# Altium footprint library Vishay Sprague Footprints.PcbLib: 143 footprints (part 6 of 9)
Each footprint in its own frame and in the unit in brackets; x right, y up, seen from the top. Pads: shape width x height; smd on the part's side, far side on the other; paste and mask are expansions set on the pad; w line width, h text height; cw(c..) or ccw(c..) is an arc to the next point about the centre after c.
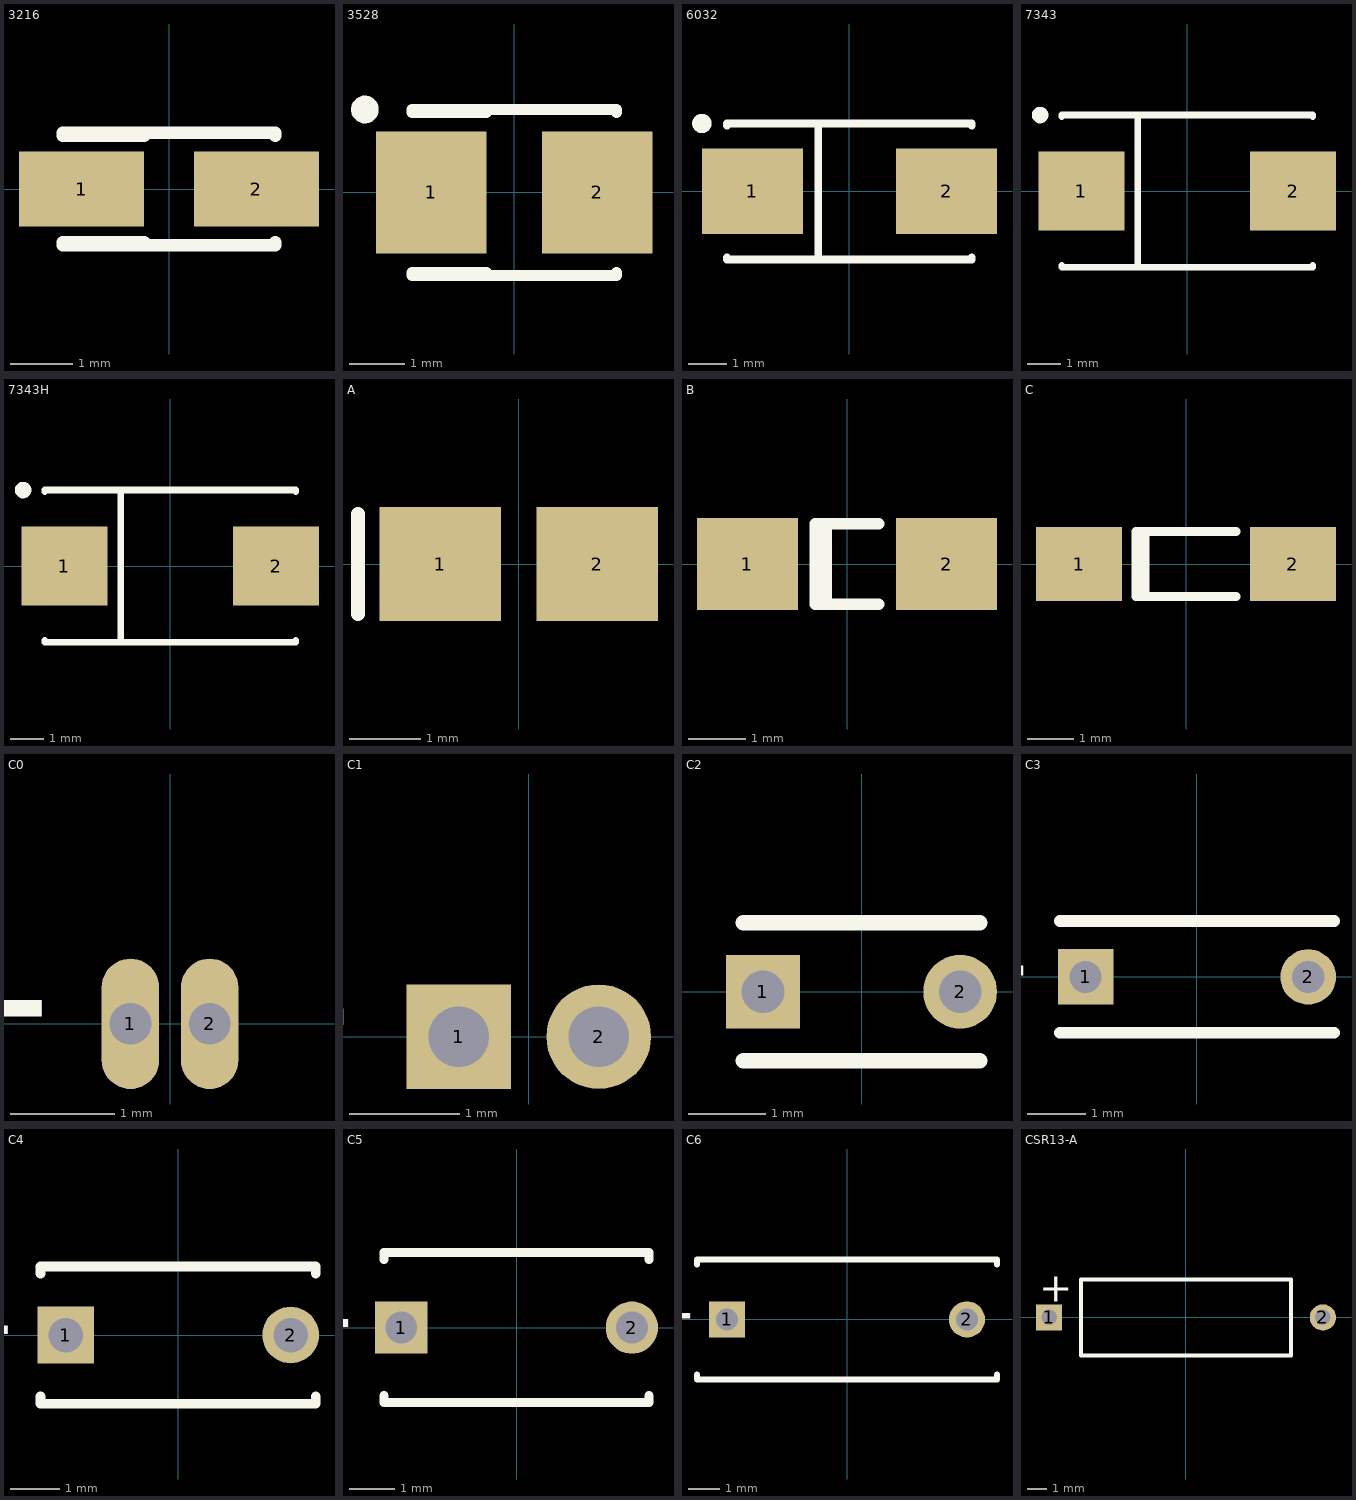
[diagram p5: the footprints below, top view; thin cyan lines are the x and y axes]

## 3216 [mm] "Capacitor, SM Tantalum; Body 3.2 x 1.6 mm (LxW typ)"
height 1.8
pads (2):
  rect 2x1.2 smd: 1(-1.4,0) 2(1.4,0)
Top Overlay:
  lines w0.2: -1.7,-0.9 1.7,-0.9 1.7,-0.85 ; -1.7,-0.85 -0.4,-0.85 ; -1.7,0.85 -0.4,0.85 ; -1.7,0.9 1.7,0.9 1.7,0.85

## 3528 [mm] "Capacitor, SM Tantalum; Body 3.5 x 2.8 mm (LxW typ)"
height 2.1
pads (2):
  rect 2x2.2 smd: 1(-1.5,0) 2(1.5,0)
Top Overlay:
  circle w0.25: c-2.7,1.5 r0.125
  lines w0.2: -1.85,-1.5 1.85,-1.5 1.85,-1.45 ; -1.85,-1.45 -0.5,-1.45 ; -1.85,1.45 -0.5,1.45 ; -1.85,1.5 1.85,1.5 1.85,1.45

## 6032 [mm] "Capacitor, SM Tantalum; Body 6.0 x 3.2 mm (LxW typ)"
height 2.8
pads (2):
  rect 2.6x2.2 smd: 1(-2.5,0) 2(2.5,0)
Top Overlay:
  circle w0.25: c-3.8,1.75 r0.125
  lines w0.2: -3.15,-1.7 -3.15,-1.75 3.15,-1.75 3.15,-1.7 ; -3.15,1.7 -3.15,1.75 3.15,1.75 3.15,1.7 ; -0.8,-1.75 -0.8,1.75

## 7343 [mm] "Capacitor, SM Tantalum; Body 7.3 x 4.3 mm (LxW typ)"
height 3.1
pads (2):
  rect 2.6x2.4 smd: 1(-3.2,0) 2(3.2,0)
Top Overlay:
  circle w0.25: c-4.45,2.3 r0.125
  lines w0.2: -3.8,-2.25 -3.8,-2.3 3.8,-2.3 3.8,-2.25 ; -3.8,2.25 -3.8,2.3 3.8,2.3 3.8,2.25 ; -1.5,-2.3 -1.5,2.3

## 7343H [mm] "Capacitor, SM Tantalum; Body 7.3 x 4.3 mm (LxW typ)"
height 4.3
pads (2):
  rect 2.6x2.4 smd: 1(-3.2,0) 2(3.2,0)
Top Overlay:
  circle w0.25: c-4.45,2.3 r0.125
  lines w0.2: -3.8,-2.25 -3.8,-2.3 3.8,-2.3 3.8,-2.25 ; -3.8,2.25 -3.8,2.3 3.8,2.3 3.8,2.25 ; -1.5,-2.3 -1.5,2.3

## A [mm] "Chip Capacitor; Body 2.54 x 1.27 mm (LxW typ)"
height 1.66
pads (2):
  rect 1.7x1.6 smd: 1(-1.1,0) 2(1.1,0)
Top Overlay:
  lines w0.2: -2.25,-0.7 -2.25,0.7

## B [mm] "Chip Capacitor; Body 3.81 x 1.27 mm (LxW typ)"
height 1.66
pads (2):
  rect 1.75x1.6 smd: 1(-1.725,0) 2(1.725,0)
Top Overlay:
  lines w0.2: -0.36,-0.7 -0.36,0.7 ; 0.55,-0.7 -0.55,-0.7 -0.55,0.7 0.55,0.7

## C [mm] "Chip Capacitor; Body 5.08 x 1.27 mm (LxW typ)"
height 1.66
pads (2):
  rect 1.85x1.6 smd: 1(-2.3,0) 2(2.3,0)
Top Overlay:
  lines w0.2: -0.885,-0.7 -0.885,0.7 ; 1.075,-0.7 -1.075,-0.7 -1.075,0.7 1.075,0.7

## C0 [mm] "Capacitor, Radial, Tantalum; Body 1.27 x 1.02 x 2.54 mm (WxTxH max); Pin Spacing 0.76 mm (typ)"
height 2.54
pads (2):
  oval 0.55x1.25 hole 0.4: 1(-0.38,0) 2(0.38,0)
Top Overlay:
  text "+" at -1.025,0.75 h1.5

## C1 [mm] "Capacitor, Radial, Tantalum; Body 1.78 x 1.02 x 3.18 mm (WxTxH max); Pin Spacing 1.27 mm (typ)"
height 3.18
pads (2):
  rect 0.95x0.95 hole 0.55: 1(-0.635,0)
  round 0.95 hole 0.55: 2(0.635,0)
Top Overlay:
  text "+" at -1.488,0.75 h1.5

## C2 [mm] "Capacitor, Radial, Tantalum; Body 3.05 x 1.78 x 4.19 mm (WxTxH max); Pin Spacing 2.54 mm (typ)"
height 4.19
pads (2):
  rect 0.95x0.95 hole 0.55: 1(-1.27,0)
  round 0.95 hole 0.55: 2(1.27,0)
Top Overlay:
  lines w0.2: -1.525,-0.89 1.525,-0.89 ; -1.525,0.89 1.525,0.89
  text "+" at -2.12,0.75 h1.5

## C3 [mm] "Capacitor, Radial, Tantalum; Body 4.70 x 1.91 x 5.72 mm (WxTxH max); Pin Spacing 3.81 mm (typ)"
height 5.72
pads (2):
  rect 0.95x0.95 hole 0.55: 1(-1.905,0)
  round 0.95 hole 0.55: 2(1.905,0)
Top Overlay:
  lines w0.2: -2.35,-0.955 2.35,-0.955 ; -2.35,0.955 2.35,0.955
  text "+" at -2.755,0.75 h1.5

## C4 [mm] "Capacitor, Radial, Tantalum; Body 5.59 x 2.79 x 7.37 mm (WxTxH max); Pin Spacing 4.57 mm (typ)"
height 7.37
pads (2):
  rect 1.15x1.15 hole 0.7: 1(-2.285,0)
  round 1.15 hole 0.7: 2(2.285,0)
Top Overlay:
  lines w0.2: -2.795,-1.245 -2.795,-1.395 2.795,-1.395 2.795,-1.245 ; -2.795,1.245 -2.795,1.395 2.795,1.395 2.795,1.245
  text "+" at -3.235,0.75 h1.5

## C5 [mm] "Capacitor, Radial, Tantalum; Body 5.84 x 3.30 x 7.87 mm (WxTxH max); Pin Spacing 5.08 mm (typ)"
height 7.87
pads (2):
  rect 1.15x1.15 hole 0.7: 1(-2.54,0)
  round 1.15 hole 0.7: 2(2.54,0)
Top Overlay:
  lines w0.2: -2.92,-1.5 -2.92,-1.65 2.92,-1.65 2.92,-1.5 ; -2.92,1.5 -2.92,1.65 2.92,1.65 2.92,1.5
  text "+" at -3.49,0.75 h1.5

## C6 [mm] "Capacitor, Radial, Tantalum; Body 9.53 x 3.81 x 12.07 mm (WxTxH max); Pin Spacing 7.62 mm (typ)"
height 12.07
pads (2):
  rect 1.15x1.15 hole 0.7: 1(-3.81,0)
  round 1.15 hole 0.7: 2(3.81,0)
Top Overlay:
  lines w0.2: -4.765,-1.755 -4.765,-1.905 4.765,-1.905 4.765,-1.755 ; -4.765,1.755 -4.765,1.905 4.765,1.905 4.765,1.755
  text "+" at -4.76,0.75 h1.5

## CSR13-A [mm] "Capacitor, Axial, Polarised; Body 8.1 x 3.8 mm (LxDia. max), Lead Dia. 0.51 mm (typ)"
height 3.9
pads (2):
  rect 1.35x1.35 hole 0.8: 1(-7.04,0)
  round 1.35 hole 0.8: 2(7.04,0)
Top Overlay:
  lines w0.2: -5.4,-1.95 -5.4,1.95 5.4,1.95 5.4,-1.95 -5.4,-1.95
  text "+" at -7.54,0.8 h1.5